# EAGLE library part USBC (library geusebio)
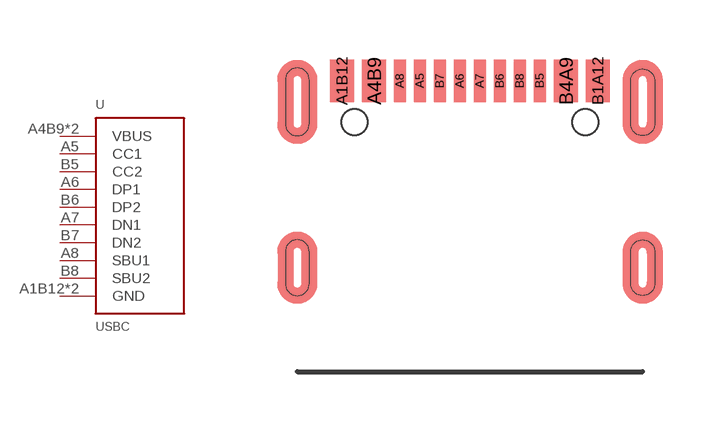
[diagram p20: symbol with the pads of USBC; footprint USBC]

Designator prefix -

## USBC  [USBC]
A1B12  GND
A4B9  VBUS
A5  CC1
A6  DP1
A7  DN1
A8  SBU1
B1A12  GND
B4A9  VBUS
B5  CC2
B6  DP2
B7  DN2
B8  SBU2

## Footprint USBC (pad centres in mm)
smd 0.6 x 1.05: A1B12 -3.2,0.525; A4B9 -2.4,0.525; B1A12 3.2,0.525; B4A9 2.4,0.525
smd 0.3 x 1.05: A5 -1.25,0.525; A6 -0.25,0.525; A7 0.25,0.525; A8 -1.75,0.525; B5 1.75,0.525; B6 0.75,0.525; B7 -0.75,0.525; B8 1.25,0.525
hole 0.65 at 2.89,-0.5
hole 0.65 at -2.89,-0.5